# Altium footprint library 690367290676.PcbLib: 1 footprints
Each footprint in its own frame and in the unit in brackets; x right, y up, seen from the top. Pads: shape width x height; smd on the part's side, far side on the other; paste and mask are expansions set on the pad; w line width, h text height; cw(c..) or ccw(c..) is an arc to the next point about the centre after c.
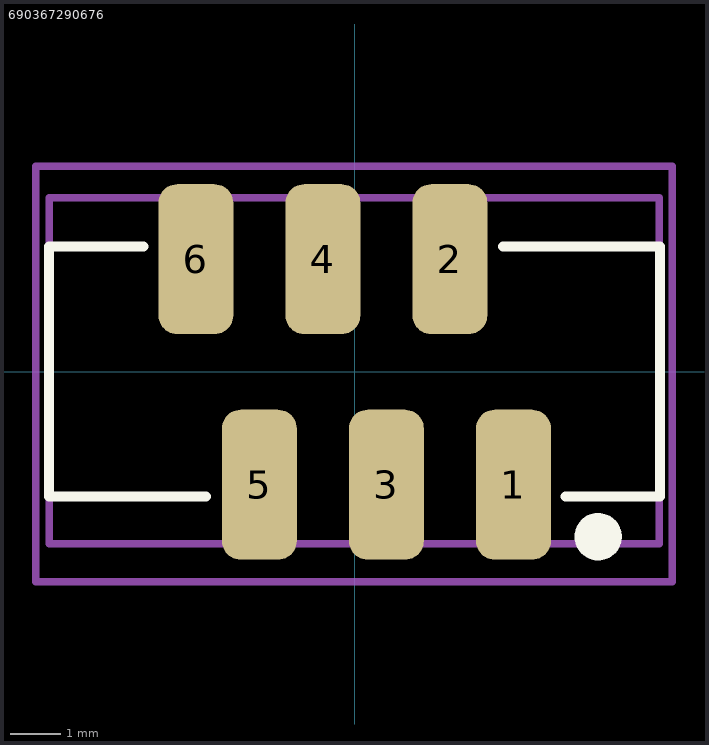
[diagram p0: the footprint, top view; thin cyan lines are the x and y axes]

## 690367290676 [mm]
pads (6):
  rrect50% 1.5x3 smd mask+0.07: 1(3.175,-2.255) 2(1.905,2.255) 3(0.635,-2.255) 4(-0.635,2.255) 5(-1.905,-2.255) 6(-3.175,2.255)
Top Overlay:
  circle w0.5: c4.87,-3.295 r0.224
  lines w0.2: -4.22,2.505 -6.11,2.505 -6.11,-2.495 -2.97,-2.495 ; 2.97,2.505 6.11,2.505 6.11,-2.495 4.22,-2.495
Top Assembly:
  lines w0.15: -6.11,-3.435 6.096,-3.435 6.096,3.482 -6.11,3.482 -6.11,-3.435
Top Courtyard:
  lines w0.15: -6.375,-4.197 6.35,-4.197 6.35,4.115 -6.375,4.115 -6.375,-4.197
3D body "690367290676.stp": height 5.75, standoff 0, extent -6.105,-3.499 6.105,3.498